# Altium integrated library LL-R3528RGBC-008-B.IntLib: 1 symbol
Pins are listed as number, name and electrical type; pins without a type are passive.

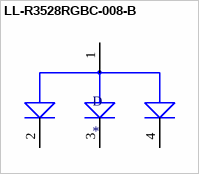
[diagram p0: symbol LL-R3528RGBC-008-B]

## LL-R3528RGBC-008-B
designator D
LED; SMD; 3528, PLCC2; RGB; 3.5x2.8mm; 120Â°; Red lumin: 1; MF: Lucky Light; MP: LL-R3528RGBC-008-B; Package: PLCC-2 Lucky Light; Availability: Unavailable; Value: *; SnapEDA_Link: https://www.snapeda.com/parts/LL-R3528RGBC-008-B/Lucky%20Light/view-part/47649/?ref=snap; Price: None
footprint LED_LL-R3528RGBC-008-B
pins: 1 COMM_ANODE, 2 CATHODE_RED, 3 CATHODE_GREEN, 4 CATHODE_BLUE